# EAGLE library part XY2500?-C(5.08)-10PIN (library con-xy2500)
XINYA XY2500 Connectors <http://www.china-xinya.com/en/> by Damian Nowak <http://nowakdamian.com> Basic specification: Max. voltage: 300 V Max. current: 15 A Pitch: 5.08 mm (0.2 inch) Pin dimension: 1.0 x 1.0 mm Materials: Housing: PA66(UL 94V-0) Solder pin: Brass, 1.0t, tin plated TME: TBG-5-PB-10P-GN
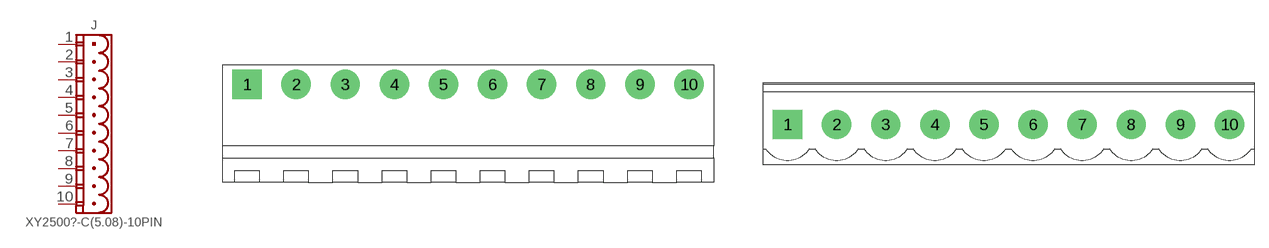
[diagram p2: symbol with the pads of XY2500R-C(5.08)-10PIN; footprints XY2500R-C(5.08)-10PIN, XY2500V-C(5.08)-10PIN]

Designator prefix J

## XY2500R-C(5.08)-10PIN  [XY2500R-C(5.08)-10PIN]
1  1
2  2
3  3
4  4
5  5
6  6
7  7
8  8
9  9
10  10

## XY2500V-C(5.08)-10PIN  [XY2500V-C(5.08)-10PIN]
Pads as for XY2500R-C(5.08)-10PIN

## Footprint XY2500R-C(5.08)-10PIN (pad centres in mm)
drill 1.5 pad 3.048 square: 1 -22.86,0
drill 1.5 pad 3.048: 2 -17.78,0; 3 -12.7,0; 4 -7.62,0; 5 -2.54,0; 6 2.54,0; 7 7.62,0; 8 12.7,0; 9 17.78,0; 10 22.86,0

## Footprint XY2500V-C(5.08)-10PIN (pad centres in mm)
drill 1.5 pad 3.048 square: 1 -22.86,0
drill 1.5 pad 3.048: 2 -17.78,0; 3 -12.7,0; 4 -7.62,0; 5 -2.54,0; 6 2.54,0; 7 7.62,0; 8 12.7,0; 9 17.78,0; 10 22.86,0